# Altium schematic symbol library SDP810-125Pa.SchLib: 1 symbol
Pins are listed as number, name and electrical type; pins without a type are passive.

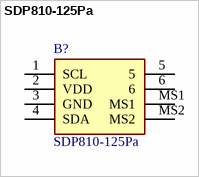
[diagram p0: symbol SDP810-125Pa]

## SDP810-125Pa
designator B?
Sensirion SDP810-125PA, Differential Pressure Sensor +125Pa 4-Pin; Geometry.Height: 24mm; Manufacturer_Name: Sensirion; Manufacturer_Part_Number: SDP810-125Pa; Mouser Part Number: 403-SDP810-125PA; Mouser Price/Stock: https://www.mouser.co.uk/ProductDetail/Sensirion/SDP810-125PA?qs=KwaGCOX4wIaNl5Uit0G7rw%3D%3D; Arrow Part Number: SDP810-125PA; Arrow Price/Stock: https://www.arrow.com/en/products/sdp810-125pa/sensirion-ag?region=europe; Datasheet Link: https://www.mouser.com/datasheet/2/682/Sensirion_Differential_Pressure_Sensors_SDP8xx_Dig-1511125.pdf
footprint SDP810125Pa
pins: 1 SCL, 2 VDD, 3 GND, 4 SDA, 5, 6, MS1, MS2